# Altium schematic symbol library SCH - POWER - SWITCHMODE - TI TPS6209733-Q1RGT.SchLib: 1 symbol
Pins are listed as number, name and electrical type; pins without a type are passive.

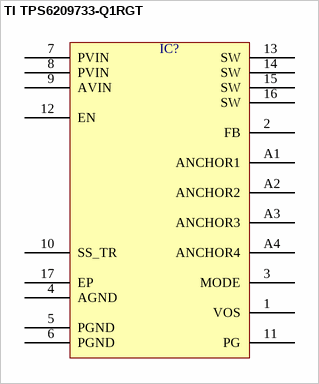
[diagram p0: symbol TI TPS6209733-Q1RGT]

## TI TPS6209733-Q1RGT
designator IC?  (value not drawn)
pins: 1 VOS, 2 FB, 3 MODE, 4 AGND, 5 PGND, 6 PGND, 7 PVIN, 8 PVIN, 9 AVIN, 10 SS_TR, 11 PG, 12 EN, 13 SW, 14 SW, 15 SW, 16 SW, 17 EP, A1 ANCHOR1, A2 ANCHOR2, A3 ANCHOR3, A4 ANCHOR4